# EAGLE library part A-2004-2-4-LP-N-R (library A-2004-2-4-LP-N-R)
Conn Modular Jack F 8 POS 2.54mm Solder RA Thru-Hole 8 Terminal 1 Port Source: Datasheet <http://www.assmann-wsw.com/fileadmin/datasheets/ASS_7273_CO.pdf>
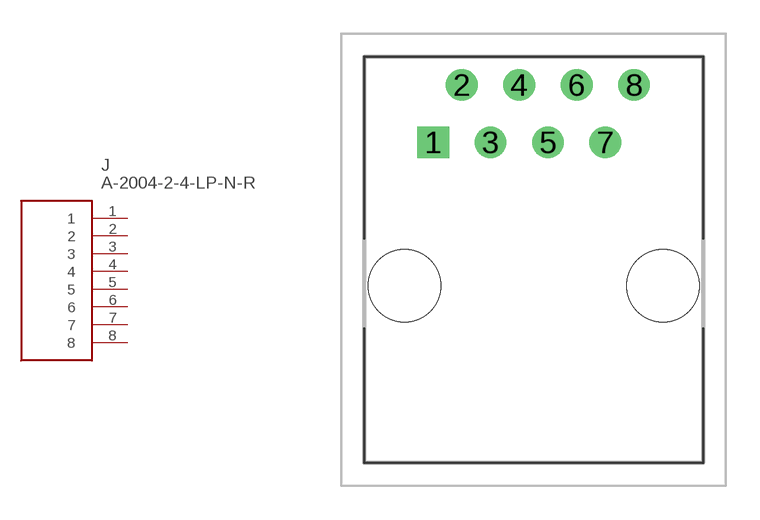
[diagram p0: symbol with the pads of A200424LPNR; footprint A200424LPNR]

Designator prefix J

## A-2004-2-4-LP-N-R (Arrow_Part_Number: A-2004-2-4-LP-N-R; Arrow_Price-Stock: https://www.arrow.com/en/products/a-2004-2-4-lp-n-r/assmann-wsw-components-inc?region=nac; Description: Conn Modular Jack F 8 POS 2.54mm Solder RA Thru-Hole 8 Terminal 1 Port; Height: 11.75mm; Manufacturer_Name: ASSMANN WSW components GmbH; Manufacturer_Part_Number: A-2004-2-4-LP-N-R)  [A200424LPNR]
1  1
2  2
3  3
4  4
5  5
6  6
7  7
8  8

## Footprint A200424LPNR (pad centres in mm)
A-2004-2-4-LP-N-R-2
drill 0.9 pad 1.4 square: 1 0,0
drill 0.9 pad 1.4: 2 1.27,2.54; 3 2.54,0; 4 3.81,2.54; 5 5.08,0; 6 6.35,2.54; 7 7.62,0; 8 8.89,2.54
hole 3.2 at -1.27,-6.35
hole 3.2 at 10.16,-6.35